# Altium schematic symbol library MCU_Antenna_Related.SchLib: 2 symbols
Pins are listed as number, name and electrical type; pins without a type are passive.

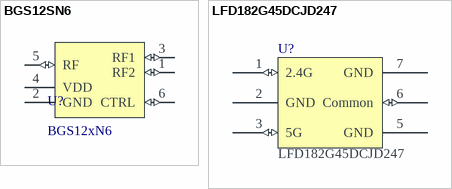
[diagram p0: symbols BGS12SN6 to LFD182G45DCJD247]

## BGS12SN6
designator U?, comment BGS12xN6
Wideband SPDT RF Switch, 50MHz-6GHz. Max 30dBm, 1.8-3.5V; Manufacturer: Infineon Technologies; Manufacturer Part Number: BGS12SN6E6327XTSA1; Part Number: BGS12SN6; Part number NEMS: 101900686; Artikkelnr Noca: N.A.; Component Status: Active; Pad Count: 6; Value: BGS12SN6; Component Class: Misc_ICs; ComponentLink1Description: Datasheet; ComponentLink1URL: https://no.mouser.com/datasheet/2/196/Infineon-BGS12SN6-DS-v02_03-EN-1226027.pdf; ComponentLink2Description: Supplier link; ComponentLink2URL: N.A.; Footprint Doc: TSNP-6-8; HelpURL: https://no.mouser.com/datasheet/2/196/Infineon-BGS12SN6-DS-v02_03-EN-1226027.pdf; LatestRevisionDate: 2022-02-17; Note: N.A.; PartId: 101900686; Part number IPS: N.A.; Part number Norautron: N.A.; Published: 2022-02-17; Supplier 1 Name: Mouser; Supplier 2 Name: N.A.; Supplier 1 SN: 726-BGS12SN6E6327XTS; Supplier 2 SN: N.A.
footprint TSNP-6-8
pins: 1 RF2 (io), 2 GND (power), 3 RF1 (io), 4 VDD (power), 5 RF (io), 6 CTRL (io)

## LFD182G45DCJD247
designator U?, comment value LFD182G45DCJD247  (hidden comment: LFD_Diplexer)
Signal Conditioning 2.4GHz and 5GHz Diplexer; Manufacturer: Murata; Part number NEMS: 100800026; Pad Count: 6; Note: N.A.; Component Status: Active; Part Number: LFD182G45DCJD247; Component Class: Filters; Author: hany; Manufacturer Part Number: LFD182G45DCJD247; ComponentLink1URL: https://no.mouser.com/datasheet/2/281/1/LFD182G45DCJD247-2399435.pdf; ComponentLink1Description: Datasheet; ComponentLink2URL: N.A.; ComponentLink2Description: Supplier link; HelpURL: N.A.; Footprint Doc: CAF; LatestRevisionDate: 2021-10-06; Published: 2021-10-06; Supplier 1 Name: Mouser; Supplier 1 SN: 81-LFD182G45DCJD247; Supplier 2 Name: N.A.; Supplier 2 SN: N.A.; Artikkelnr Noca: N.A.; Part number IPS: N.A.; Part number Norautron: N.A.; PartId: 100800026
footprint CAF-50P160X80-6N
pins: 1 2.4G (io), 2 GND (power), 3 5G (io), 5 GND (power), 6 Common (io), 7 GND (power)